# Altium footprint library ERA8A__0805_.PcbLib: 1 footprints
Each footprint in its own frame and in the unit in brackets; x right, y up, seen from the top. Pads: shape width x height; smd on the part's side, far side on the other; paste and mask are expansions set on the pad; w line width, h text height; cw(c..) or ccw(c..) is an arc to the next point about the centre after c.
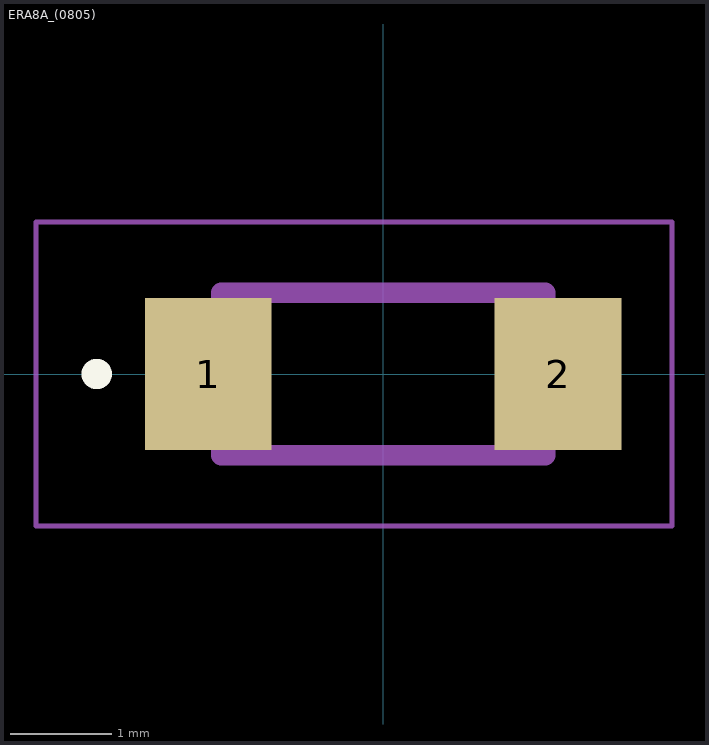
[diagram p0: the footprint, top view; thin cyan lines are the x and y axes]

## ERA8A_(0805) [mm]
pads (2):
  rect 1.25x1.5 smd: 1(-1.725,0) 2(1.725,0)
Top Overlay:
  circle w0.2: c-2.825,0 r0.05
Mechanical 15:
  lines w0.2: -1.6,-0.8 1.6,-0.8 1.6,0.8 -1.6,0.8 -1.6,-0.8
Mechanical 20:
  lines w0.05: -3.425,-1.5 2.85,-1.5 2.85,1.5 -3.425,1.5 -3.425,-1.5
3D body "ERA-8ARW7152V.stp": height 5.8, standoff -4.65, extent -10,-3.376 10,3.376